# Altium schematic symbol library AOD514.SchLib: 1 symbol
Pins are listed as number, name and electrical type; pins without a type are passive.

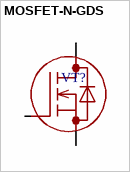
[diagram p0: symbol MOSFET-N-GDS]

## MOSFET-N-GDS
designator VT?
footprint TO252
pins: 1 G, 2 D, 3 S